# Altium footprint library con-3m.PCBLIB: 62 footprints (part 6 of 6)
Each footprint in its own frame and in the unit in brackets; x right, y up, seen from the top. Pads: shape width x height; smd on the part's side, far side on the other; paste and mask are expansions set on the pad; w line width, h text height; cw(c..) or ccw(c..) is an arc to the next point about the centre after c.
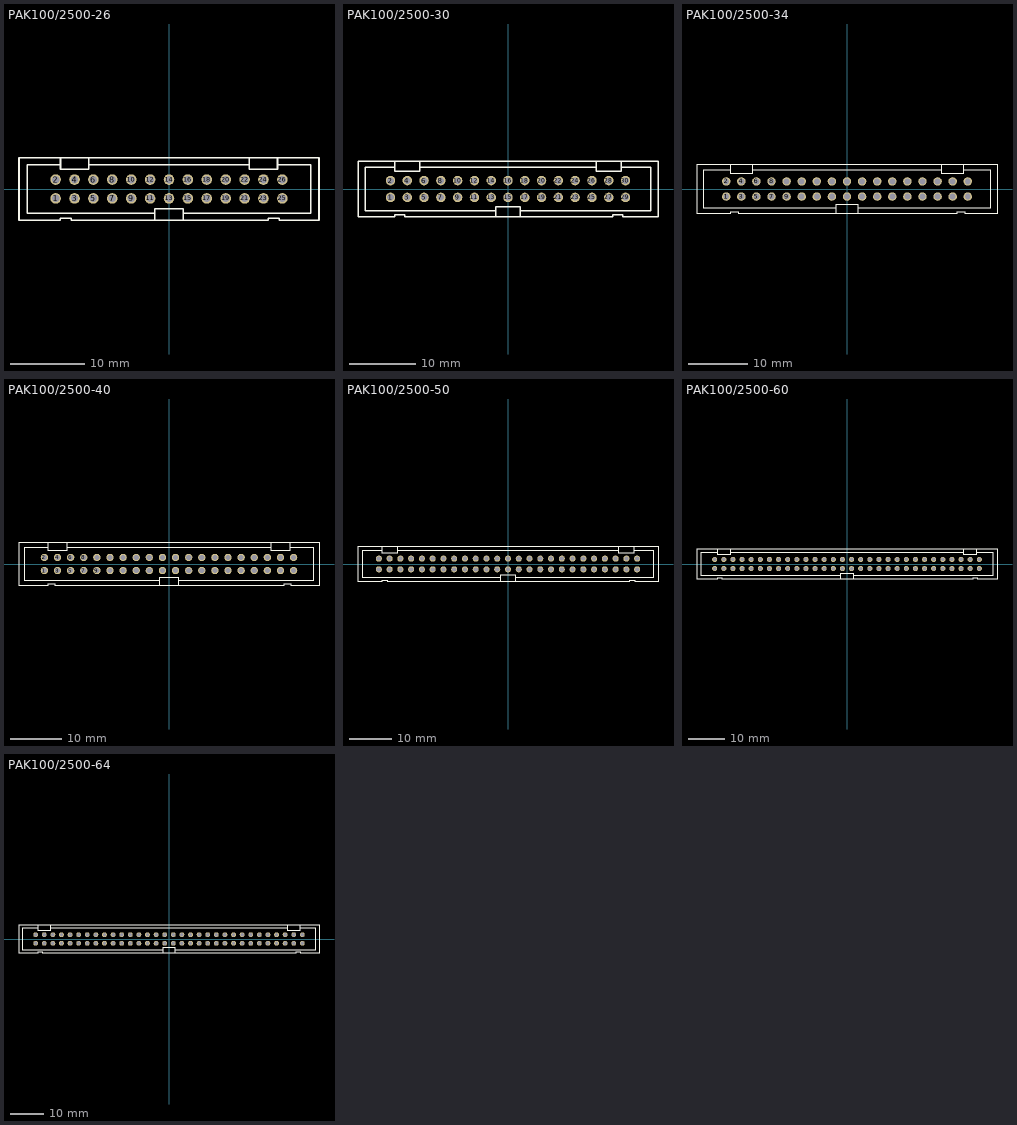
[diagram p5: the footprints below, top view; thin cyan lines are the x and y axes]

## PAK100/2500-26 [mil]
pads (26):
  round 56 hole 39.37: 1(-600,-50) 2(-600,50) 3(-500,-50) 4(-500,50) 5(-400,-50) 6(-400,50) 7(-300,-50) 8(-300,50) 9(-200,-50) 10(-200,50) 11(-100,-50) 12(-100,50) 13(0,-50) 14(0,50) 15(100,-50) 16(100,50) 17(200,-50) 18(200,50) 19(300,-50) 20(300,50) 21(400,-50) 22(400,50) 23(500,-50) 24(500,50) 25(600,-50) 26(600,50)
Top Overlay:
  lines w8: -574.41,128.94 -749.41,128.94 -749.41,-128.94 -74.13,-128.94 ; -425.79,128.94 425.79,128.94 ; 74.13,-128.94 749.41,-128.94 749.41,128.94 574.41,128.94 ; -574.13,165.35 -793.7,165.35 -793.7,-165.35 -574.45,-165.35 -574.45,-153.54 -516.22,-153.54 -516.22,-165.35 -74.13,-165.35 ; -574.13,165.35 -425.87,165.35 ; -574.13,165.35 -574.13,104.33 -425.87,104.33 -425.87,165.35 ; -425.87,165.35 425.87,165.35 ; -74.13,-165.35 -74.13,-104.33 74.13,-104.33 74.13,-165.35 ; -74.13,-165.35 74.13,-165.35 ; 74.13,-165.35 525.55,-165.35 525.55,-153.54 583.78,-153.54 583.78,-165.35 793.7,-165.35 793.7,165.35 574.13,165.35 ; 425.87,165.35 574.13,165.35 ; 425.87,165.35 425.87,104.33 574.13,104.33 574.13,165.35

## PAK100/2500-30 [mil]
pads (30):
  round 56 hole 39.37: 1(-700,-50) 2(-700,50) 3(-600,-50) 4(-600,50) 5(-500,-50) 6(-500,50) 7(-400,-50) 8(-400,50) 9(-300,-50) 10(-300,50) 11(-200,-50) 12(-200,50) 13(-100,-50) 14(-100,50) 15(0,-50) 16(0,50) 17(100,-50) 18(100,50) 19(200,-50) 20(200,50) 21(300,-50) 22(300,50) 23(400,-50) 24(400,50) 25(500,-50) 26(500,50) 27(600,-50) 28(600,50) 29(700,-50) 30(700,50)
Top Overlay:
  lines w8: -674.41,128.94 -849.41,128.94 -849.41,-128.94 -74.13,-128.94 ; -525.79,128.94 525.79,128.94 ; 74.13,-128.94 849.41,-128.94 849.41,128.94 674.41,128.94 ; -674.13,165.35 -893.7,165.35 -893.7,-165.35 -674.45,-165.35 -674.45,-153.54 -616.22,-153.54 -616.22,-165.35 -74.13,-165.35 ; -674.13,165.35 -525.87,165.35 ; -674.13,165.35 -674.13,104.33 -525.87,104.33 -525.87,165.35 ; -525.87,165.35 525.87,165.35 ; -74.13,-165.35 -74.13,-104.33 74.13,-104.33 74.13,-165.35 ; -74.13,-165.35 74.13,-165.35 ; 74.13,-165.35 625.55,-165.35 625.55,-153.54 683.78,-153.54 683.78,-165.35 893.7,-165.35 893.7,165.35 674.13,165.35 ; 525.87,165.35 674.13,165.35 ; 525.87,165.35 525.87,104.33 674.13,104.33 674.13,165.35

## PAK100/2500-34 [mil]
pads (34):
  round 56 hole 39.37: 1(-800,-50) 2(-800,50) 3(-700,-50) 4(-700,50) 5(-600,-50) 6(-600,50) 7(-500,-50) 8(-500,50) 9(-400,-50) 10(-400,50) 11(-300,-50) 12(-300,50) 13(-200,-50) 14(-200,50) 15(-100,-50) 16(-100,50) 17(0,-50) 18(0,50) 19(100,-50) 20(100,50) 21(200,-50) 22(200,50) 23(300,-50) 24(300,50) 25(400,-50) 26(400,50) 27(500,-50) 28(500,50) 29(600,-50) 30(600,50) 31(700,-50) 32(700,50) 33(800,-50) 34(800,50)
Top Overlay:
  lines w8: -774.41,128.94 -949.41,128.94 -949.41,-128.94 -74.13,-128.94 ; -625.79,128.94 625.79,128.94 ; 74.13,-128.94 949.41,-128.94 949.41,128.94 774.41,128.94 ; -774.13,165.35 -993.7,165.35 -993.7,-165.35 -774.45,-165.35 -774.45,-153.54 -716.22,-153.54 -716.22,-165.35 -74.13,-165.35 ; -774.13,165.35 -625.87,165.35 ; -774.13,165.35 -774.13,104.33 -625.87,104.33 -625.87,165.35 ; -625.87,165.35 625.87,165.35 ; -74.13,-165.35 -74.13,-104.33 74.13,-104.33 74.13,-165.35 ; -74.13,-165.35 74.13,-165.35 ; 74.13,-165.35 725.55,-165.35 725.55,-153.54 783.78,-153.54 783.78,-165.35 993.7,-165.35 993.7,165.35 774.13,165.35 ; 625.87,165.35 774.13,165.35 ; 625.87,165.35 625.87,104.33 774.13,104.33 774.13,165.35

## PAK100/2500-40 [mil]
pads (40):
  round 56 hole 39.37: 1(-950,-50) 2(-950,50) 3(-850,-50) 4(-850,50) 5(-750,-50) 6(-750,50) 7(-650,-50) 8(-650,50) 9(-550,-50) 10(-550,50) 11(-450,-50) 12(-450,50) 13(-350,-50) 14(-350,50) 15(-250,-50) 16(-250,50) 17(-150,-50) 18(-150,50) 19(-50,-50) 20(-50,50) 21(50,-50) 22(50,50) 23(150,-50) 24(150,50) 25(250,-50) 26(250,50) 27(350,-50) 28(350,50) 29(450,-50) 30(450,50) 31(550,-50) 32(550,50) 33(650,-50) 34(650,50) 35(750,-50) 36(750,50) 37(850,-50) 38(850,50) 39(950,-50) 40(950,50)
Top Overlay:
  lines w8: -924.41,128.94 -1099.41,128.94 -1099.41,-128.94 -74.13,-128.94 ; -775.79,128.94 775.79,128.94 ; 74.13,-128.94 1099.41,-128.94 1099.41,128.94 924.41,128.94 ; -924.13,165.35 -1143.7,165.35 -1143.7,-165.35 -924.45,-165.35 -924.45,-153.54 -866.22,-153.54 -866.22,-165.35 -74.13,-165.35 ; -924.13,165.35 -775.87,165.35 ; -924.13,165.35 -924.13,104.33 -775.87,104.33 -775.87,165.35 ; -775.87,165.35 775.87,165.35 ; -74.13,-165.35 -74.13,-104.33 74.13,-104.33 74.13,-165.35 ; -74.13,-165.35 74.13,-165.35 ; 74.13,-165.35 875.55,-165.35 875.55,-153.54 933.78,-153.54 933.78,-165.35 1143.7,-165.35 1143.7,165.35 924.13,165.35 ; 775.87,165.35 924.13,165.35 ; 775.87,165.35 775.87,104.33 924.13,104.33 924.13,165.35

## PAK100/2500-50 [mil]
pads (50):
  round 56 hole 39.37: 1(-1200,-50) 2(-1200,50) 3(-1100,-50) 4(-1100,50) 5(-1000,-50) 6(-1000,50) 7(-900,-50) 8(-900,50) 9(-800,-50) 10(-800,50) 11(-700,-50) 12(-700,50) 13(-600,-50) 14(-600,50) 15(-500,-50) 16(-500,50) 17(-400,-50) 18(-400,50) 19(-300,-50) 20(-300,50) 21(-200,-50) 22(-200,50) 23(-100,-50) 24(-100,50) 25(0,-50) 26(0,50) 27(100,-50) 28(100,50) 29(200,-50) 30(200,50) 31(300,-50) 32(300,50) 33(400,-50) 34(400,50) 35(500,-50) 36(500,50) 37(600,-50) 38(600,50) 39(700,-50) 40(700,50) 41(800,-50) 42(800,50) 43(900,-50) 44(900,50) 45(1000,-50) 46(1000,50) 47(1100,-50) 48(1100,50) 49(1200,-50) 50(1200,50)
Top Overlay:
  lines w8: -1174.41,128.94 -1349.41,128.94 -1349.41,-128.94 -74.13,-128.94 ; -1025.79,128.94 1025.79,128.94 ; 74.13,-128.94 1349.41,-128.94 1349.41,128.94 1174.41,128.94 ; -1174.13,165.35 -1393.7,165.35 -1393.7,-165.35 -1174.45,-165.35 -1174.45,-153.54 -1116.22,-153.54 -1116.22,-165.35 -74.13,-165.35 ; -1174.13,165.35 -1025.87,165.35 ; -1174.13,165.35 -1174.13,104.33 -1025.87,104.33 -1025.87,165.35 ; -1025.87,165.35 1025.87,165.35 ; -74.13,-165.35 -74.13,-104.33 74.13,-104.33 74.13,-165.35 ; -74.13,-165.35 74.13,-165.35 ; 74.13,-165.35 1125.55,-165.35 1125.55,-153.54 1183.78,-153.54 1183.78,-165.35 1393.7,-165.35 1393.7,165.35 1174.13,165.35 ; 1025.87,165.35 1174.13,165.35 ; 1025.87,165.35 1025.87,104.33 1174.13,104.33 1174.13,165.35

## PAK100/2500-60 [mil]
pads (60):
  round 56 hole 39.37: 1(-1450,-50) 2(-1450,50) 3(-1350,-50) 4(-1350,50) 5(-1250,-50) 6(-1250,50) 7(-1150,-50) 8(-1150,50) 9(-1050,-50) 10(-1050,50) 11(-950,-50) 12(-950,50) 13(-850,-50) 14(-850,50) 15(-750,-50) 16(-750,50) 17(-650,-50) 18(-650,50) 19(-550,-50) 20(-550,50) 21(-450,-50) 22(-450,50) 23(-350,-50) 24(-350,50) 25(-250,-50) 26(-250,50) 27(-150,-50) 28(-150,50) 29(-50,-50) 30(-50,50) 31(50,-50) 32(50,50) 33(150,-50) 34(150,50) 35(250,-50) 36(250,50) 37(350,-50) 38(350,50) 39(450,-50) 40(450,50) 41(550,-50) 42(550,50) 43(650,-50) 44(650,50) 45(750,-50) 46(750,50) 47(850,-50) 48(850,50) 49(950,-50) 50(950,50) 51(1050,-50) 52(1050,50) 53(1150,-50) 54(1150,50) 55(1250,-50) 56(1250,50) 57(1350,-50) 58(1350,50) 59(1450,-50) 60(1450,50)
Top Overlay:
  lines w8: -1424.41,128.94 -1599.41,128.94 -1599.41,-128.94 -74.13,-128.94 ; -1275.79,128.94 1275.79,128.94 ; 74.13,-128.94 1599.41,-128.94 1599.41,128.94 1424.41,128.94 ; -1424.13,165.35 -1643.7,165.35 -1643.7,-165.35 -1424.45,-165.35 -1424.45,-153.54 -1366.22,-153.54 -1366.22,-165.35 -74.13,-165.35 ; -1424.13,165.35 -1275.87,165.35 ; -1424.13,165.35 -1424.13,104.33 -1275.87,104.33 -1275.87,165.35 ; -1275.87,165.35 1275.87,165.35 ; -74.13,-165.35 -74.13,-104.33 74.13,-104.33 74.13,-165.35 ; -74.13,-165.35 74.13,-165.35 ; 74.13,-165.35 1375.55,-165.35 1375.55,-153.54 1433.78,-153.54 1433.78,-165.35 1643.7,-165.35 1643.7,165.35 1424.13,165.35 ; 1275.87,165.35 1424.13,165.35 ; 1275.87,165.35 1275.87,104.33 1424.13,104.33 1424.13,165.35

## PAK100/2500-64 [mil]
pads (64):
  round 56 hole 39.37: 1(-1550,-50) 2(-1550,50) 3(-1450,-50) 4(-1450,50) 5(-1350,-50) 6(-1350,50) 7(-1250,-50) 8(-1250,50) 9(-1150,-50) 10(-1150,50) 11(-1050,-50) 12(-1050,50) 13(-950,-50) 14(-950,50) 15(-850,-50) 16(-850,50) 17(-750,-50) 18(-750,50) 19(-650,-50) 20(-650,50) 21(-550,-50) 22(-550,50) 23(-450,-50) 24(-450,50) 25(-350,-50) 26(-350,50) 27(-250,-50) 28(-250,50) 29(-150,-50) 30(-150,50) 31(-50,-50) 32(-50,50) 33(50,-50) 34(50,50) 35(150,-50) 36(150,50) 37(250,-50) 38(250,50) 39(350,-50) 40(350,50) 41(450,-50) 42(450,50) 43(550,-50) 44(550,50) 45(650,-50) 46(650,50) 47(750,-50) 48(750,50) 49(850,-50) 50(850,50) 51(950,-50) 52(950,50) 53(1050,-50) 54(1050,50) 55(1150,-50) 56(1150,50) 57(1250,-50) 58(1250,50) 59(1350,-50) 60(1350,50) 61(1450,-50) 62(1450,50) 63(1550,-50) 64(1550,50)
Top Overlay:
  lines w8: -1524.41,128.94 -1699.41,128.94 -1699.41,-128.94 -74.13,-128.94 ; -1375.79,128.94 1375.79,128.94 ; 74.13,-128.94 1699.41,-128.94 1699.41,128.94 1524.41,128.94 ; -1524.13,165.35 -1743.7,165.35 -1743.7,-165.35 -1524.45,-165.35 -1524.45,-153.54 -1466.22,-153.54 -1466.22,-165.35 -74.13,-165.35 ; -1524.13,165.35 -1375.87,165.35 ; -1524.13,165.35 -1524.13,104.33 -1375.87,104.33 -1375.87,165.35 ; -1375.87,165.35 1375.87,165.35 ; -74.13,-165.35 -74.13,-104.33 74.13,-104.33 74.13,-165.35 ; -74.13,-165.35 74.13,-165.35 ; 74.13,-165.35 1475.55,-165.35 1475.55,-153.54 1533.78,-153.54 1533.78,-165.35 1743.7,-165.35 1743.7,165.35 1524.13,165.35 ; 1375.87,165.35 1524.13,165.35 ; 1375.87,165.35 1375.87,104.33 1524.13,104.33 1524.13,165.35